# Altium footprint library Small Outline with J Leads.PcbLib: 40 footprints (part 2 of 3)
Each footprint in its own frame and in the unit in brackets; x right, y up, seen from the top. Pads: shape width x height; smd on the part's side, far side on the other; paste and mask are expansions set on the pad; w line width, h text height; cw(c..) or ccw(c..) is an arc to the next point about the centre after c.
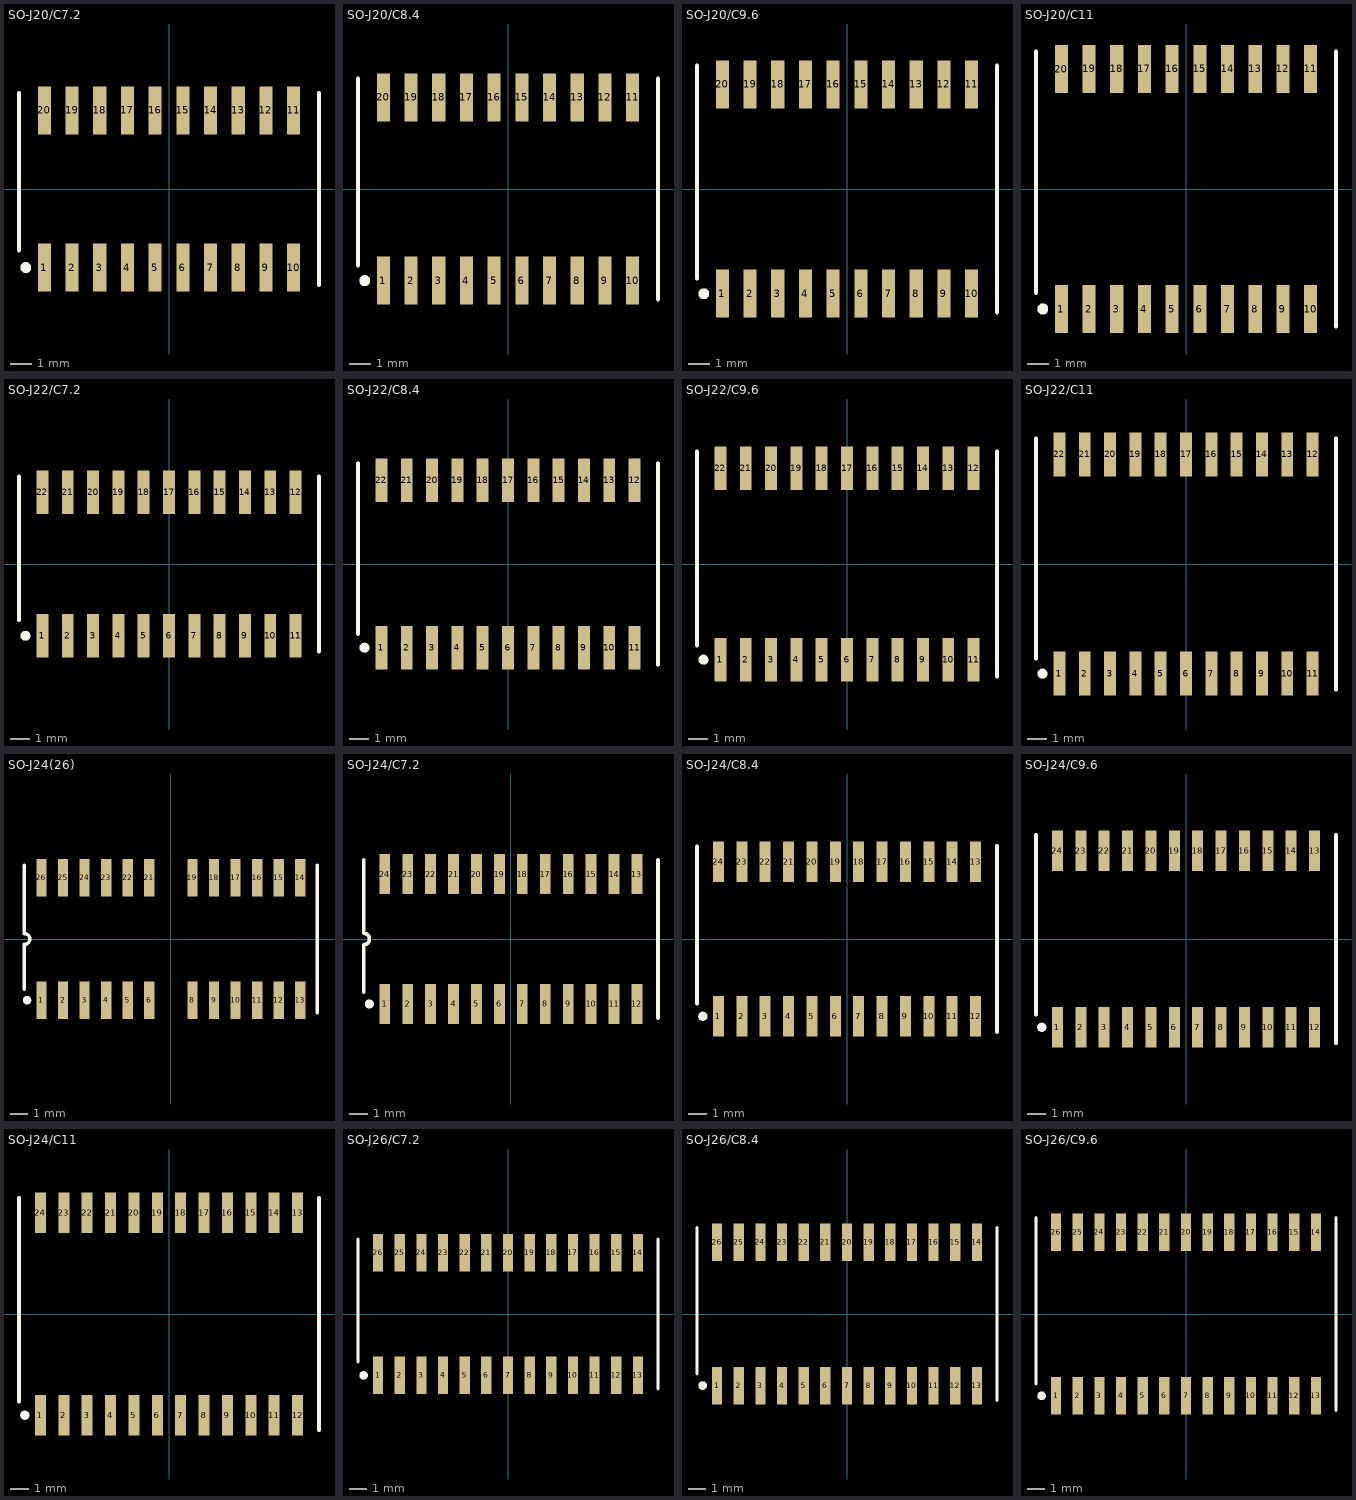
[diagram p1: the footprints below, top view; thin cyan lines are the x and y axes]

## SO-J20/C7.2 [mm] "SOJ; 20 Leads; Body Width 7.62 mm; Pitch 1.27 mm"
height 3.75
pads (20):
  rect 0.6x2.2 smd: 1(-5.715,-3.6) 2(-4.445,-3.6) 3(-3.175,-3.6) 4(-1.905,-3.6) 5(-0.635,-3.6) 6(0.635,-3.6) 7(1.905,-3.6) 8(3.175,-3.6) 9(4.445,-3.6) 10(5.715,-3.6) 11(5.715,3.6) 12(4.445,3.6) 13(3.175,3.6) 14(1.905,3.6) 15(0.635,3.6) 16(-0.635,3.6) 17(-1.905,3.6) 18(-3.175,3.6) 19(-4.445,3.6) 20(-5.715,3.6)
Top Overlay:
  circle w0.25: c-6.565,-3.6 r0.125
  lines w0.2: -6.875,-2.8 -6.875,4.4 ; 6.875,-4.4 6.875,4.4

## SO-J20/C8.4 [mm] "SOJ; 20 Leads; Body Width 8.9 mm; Pitch 1.27 mm"
height 3.75
pads (20):
  rect 0.6x2.2 smd: 1(-5.715,-4.2) 2(-4.445,-4.2) 3(-3.175,-4.2) 4(-1.905,-4.2) 5(-0.635,-4.2) 6(0.635,-4.2) 7(1.905,-4.2) 8(3.175,-4.2) 9(4.445,-4.2) 10(5.715,-4.2) 11(5.715,4.2) 12(4.445,4.2) 13(3.175,4.2) 14(1.905,4.2) 15(0.635,4.2) 16(-0.635,4.2) 17(-1.905,4.2) 18(-3.175,4.2) 19(-4.445,4.2) 20(-5.715,4.2)
Top Overlay:
  circle w0.25: c-6.565,-4.2 r0.125
  lines w0.2: -6.875,-3.5 -6.875,5.05 ; 6.875,-5.05 6.875,5.05

## SO-J20/C9.6 [mm] "SOJ; 20 Leads; Body Width 10.16 mm; Pitch 1.27 mm"
height 3.75
pads (20):
  rect 0.6x2.2 smd: 1(-5.715,-4.8) 2(-4.445,-4.8) 3(-3.175,-4.8) 4(-1.905,-4.8) 5(-0.635,-4.8) 6(0.635,-4.8) 7(1.905,-4.8) 8(3.175,-4.8) 9(4.445,-4.8) 10(5.715,-4.8) 11(5.715,4.8) 12(4.445,4.8) 13(3.175,4.8) 14(1.905,4.8) 15(0.635,4.8) 16(-0.635,4.8) 17(-1.905,4.8) 18(-3.175,4.8) 19(-4.445,4.8) 20(-5.715,4.8)
Top Overlay:
  circle w0.25: c-6.565,-4.8 r0.125
  lines w0.2: -6.875,-4.1 -6.875,5.65 ; 6.875,-5.65 6.875,5.65

## SO-J20/C11 [mm] "SOJ; 20 Leads; Body Width 11.4 mm; Pitch 1.27 mm"
height 3.75
pads (20):
  rect 0.6x2.2 smd: 1(-5.715,-5.5) 2(-4.445,-5.5) 3(-3.175,-5.5) 4(-1.905,-5.5) 5(-0.635,-5.5) 6(0.635,-5.5) 7(1.905,-5.5) 8(3.175,-5.5) 9(4.445,-5.5) 10(5.715,-5.5) 11(5.715,5.5) 12(4.445,5.5) 13(3.175,5.5) 14(1.905,5.5) 15(0.635,5.5) 16(-0.635,5.5) 17(-1.905,5.5) 18(-3.175,5.5) 19(-4.445,5.5) 20(-5.715,5.5)
Top Overlay:
  circle w0.25: c-6.565,-5.5 r0.125
  lines w0.2: -6.875,-4.75 -6.875,6.3 ; 6.875,-6.3 6.875,6.3

## SO-J22/C7.2 [mm] "SOJ; 22 Leads; Body Width 7.62 mm; Pitch 1.27 mm"
height 3.75
pads (22):
  rect 0.6x2.2 smd: 1(-6.35,-3.6) 2(-5.08,-3.6) 3(-3.81,-3.6) 4(-2.54,-3.6) 5(-1.27,-3.6) 6(0,-3.6) 7(1.27,-3.6) 8(2.54,-3.6) 9(3.81,-3.6) 10(5.08,-3.6) 11(6.35,-3.6) 12(6.35,3.6) 13(5.08,3.6) 14(3.81,3.6) 15(2.54,3.6) 16(1.27,3.6) 17(0,3.6) 18(-1.27,3.6) 19(-2.54,3.6) 20(-3.81,3.6) 21(-5.08,3.6) 22(-6.35,3.6)
Top Overlay:
  circle w0.25: c-7.2,-3.6 r0.125
  lines w0.2: -7.525,-2.8 -7.525,4.4 ; 7.525,-4.4 7.525,4.4

## SO-J22/C8.4 [mm] "SOJ; 22 Leads; Body Width 8.9 mm; Pitch 1.27 mm"
height 3.75
pads (22):
  rect 0.6x2.2 smd: 1(-6.35,-4.2) 2(-5.08,-4.2) 3(-3.81,-4.2) 4(-2.54,-4.2) 5(-1.27,-4.2) 6(0,-4.2) 7(1.27,-4.2) 8(2.54,-4.2) 9(3.81,-4.2) 10(5.08,-4.2) 11(6.35,-4.2) 12(6.35,4.2) 13(5.08,4.2) 14(3.81,4.2) 15(2.54,4.2) 16(1.27,4.2) 17(0,4.2) 18(-1.27,4.2) 19(-2.54,4.2) 20(-3.81,4.2) 21(-5.08,4.2) 22(-6.35,4.2)
Top Overlay:
  circle w0.25: c-7.2,-4.2 r0.125
  lines w0.2: -7.525,-3.5 -7.525,5.05 ; 7.525,-5.05 7.525,5.05

## SO-J22/C9.6 [mm] "SOJ; 22 Leads; Body Width 10.16 mm; Pitch 1.27 mm"
height 3.75
pads (22):
  rect 0.6x2.2 smd: 1(-6.35,-4.8) 2(-5.08,-4.8) 3(-3.81,-4.8) 4(-2.54,-4.8) 5(-1.27,-4.8) 6(0,-4.8) 7(1.27,-4.8) 8(2.54,-4.8) 9(3.81,-4.8) 10(5.08,-4.8) 11(6.35,-4.8) 12(6.35,4.8) 13(5.08,4.8) 14(3.81,4.8) 15(2.54,4.8) 16(1.27,4.8) 17(0,4.8) 18(-1.27,4.8) 19(-2.54,4.8) 20(-3.81,4.8) 21(-5.08,4.8) 22(-6.35,4.8)
Top Overlay:
  circle w0.25: c-7.2,-4.8 r0.125
  lines w0.2: -7.525,-4.1 -7.525,5.65 ; 7.525,-5.65 7.525,5.65

## SO-J22/C11 [mm] "SOJ; 22 Leads; Body Width 11.4 mm; Pitch 1.27 mm"
height 3.75
pads (22):
  rect 0.6x2.2 smd: 1(-6.35,-5.5) 2(-5.08,-5.5) 3(-3.81,-5.5) 4(-2.54,-5.5) 5(-1.27,-5.5) 6(0,-5.5) 7(1.27,-5.5) 8(2.54,-5.5) 9(3.81,-5.5) 10(5.08,-5.5) 11(6.35,-5.5) 12(6.35,5.5) 13(5.08,5.5) 14(3.81,5.5) 15(2.54,5.5) 16(1.27,5.5) 17(0,5.5) 18(-1.27,5.5) 19(-2.54,5.5) 20(-3.81,5.5) 21(-5.08,5.5) 22(-6.35,5.5)
Top Overlay:
  circle w0.25: c-7.2,-5.5 r0.125
  lines w0.2: -7.525,-4.75 -7.525,6.3 ; 7.525,-6.3 7.525,6.3

## SO-J24(26) [mm] "SOJ; 24 Leads; Body Width 7.62 mm; Pitch 1.27 mm"
height 3.76
pads (24):
  rect 0.6x2.2 smd: 1(-7.62,-3.6) 2(-6.35,-3.6) 3(-5.08,-3.6) 4(-3.81,-3.6) 5(-2.54,-3.6) 6(-1.27,-3.6) 8(1.27,-3.6) 9(2.54,-3.6) 10(3.81,-3.6) 11(5.08,-3.6) 12(6.35,-3.6) 13(7.62,-3.6) 14(7.62,3.6) 15(6.35,3.6) 16(5.08,3.6) 17(3.81,3.6) 18(2.54,3.6) 19(1.27,3.6) 21(-1.27,3.6) 22(-2.54,3.6) 23(-3.81,3.6) 24(-5.08,3.6) 25(-6.35,3.6) 26(-7.62,3.6)
Top Overlay:
  circle w0.25: c-8.47,-3.6 r0.125
  lines w0.2: -8.625,-2.95 -8.625,-0.318 ccw(c-8.625,0) -8.625,0.318 -8.625,4.35 ; 8.625,-4.35 8.625,4.35

## SO-J24/C7.2 [mm] "SOJ; 24 Leads; Body Width 7.62 mm; Pitch 1.27 mm"
height 3.75
pads (24):
  rect 0.6x2.2 smd: 1(-6.985,-3.6) 2(-5.715,-3.6) 3(-4.445,-3.6) 4(-3.175,-3.6) 5(-1.905,-3.6) 6(-0.635,-3.6) 7(0.635,-3.6) 8(1.905,-3.6) 9(3.175,-3.6) 10(4.445,-3.6) 11(5.715,-3.6) 12(6.985,-3.6) 13(6.985,3.6) 14(5.715,3.6) 15(4.445,3.6) 16(3.175,3.6) 17(1.905,3.6) 18(0.635,3.6) 19(-0.635,3.6) 20(-1.905,3.6) 21(-3.175,3.6) 22(-4.445,3.6) 23(-5.715,3.6) 24(-6.985,3.6)
Top Overlay:
  circle w0.25: c-7.835,-3.6 r0.125
  lines w0.2: -8.15,-2.95 -8.15,-0.318 ccw(c-8.15,0) -8.15,0.318 -8.15,4.4 ; 8.15,-4.4 8.15,4.4

## SO-J24/C8.4 [mm] "SOJ; 24 Leads; Body Width 8.9 mm; Pitch 1.27 mm"
height 3.75
pads (24):
  rect 0.6x2.2 smd: 1(-6.985,-4.2) 2(-5.715,-4.2) 3(-4.445,-4.2) 4(-3.175,-4.2) 5(-1.905,-4.2) 6(-0.635,-4.2) 7(0.635,-4.2) 8(1.905,-4.2) 9(3.175,-4.2) 10(4.445,-4.2) 11(5.715,-4.2) 12(6.985,-4.2) 13(6.985,4.2) 14(5.715,4.2) 15(4.445,4.2) 16(3.175,4.2) 17(1.905,4.2) 18(0.635,4.2) 19(-0.635,4.2) 20(-1.905,4.2) 21(-3.175,4.2) 22(-4.445,4.2) 23(-5.715,4.2) 24(-6.985,4.2)
Top Overlay:
  circle w0.25: c-7.835,-4.2 r0.125
  lines w0.2: -8.15,-3.5 -8.15,5.044 ; 8.15,-5.05 8.15,5.05

## SO-J24/C9.6 [mm] "SOJ; 24 Leads; Body Width 10.16 mm; Pitch 1.27 mm"
height 3.75
pads (24):
  rect 0.6x2.2 smd: 1(-6.985,-4.8) 2(-5.715,-4.8) 3(-4.445,-4.8) 4(-3.175,-4.8) 5(-1.905,-4.8) 6(-0.635,-4.8) 7(0.635,-4.8) 8(1.905,-4.8) 9(3.175,-4.8) 10(4.445,-4.8) 11(5.715,-4.8) 12(6.985,-4.8) 13(6.985,4.8) 14(5.715,4.8) 15(4.445,4.8) 16(3.175,4.8) 17(1.905,4.8) 18(0.635,4.8) 19(-0.635,4.8) 20(-1.905,4.8) 21(-3.175,4.8) 22(-4.445,4.8) 23(-5.715,4.8) 24(-6.985,4.8)
Top Overlay:
  circle w0.25: c-7.835,-4.8 r0.125
  lines w0.2: -8.15,-4.1 -8.15,5.65 ; 8.15,-5.65 8.15,5.65

## SO-J24/C11 [mm] "SOJ; 24 Leads; Body Width 11.4 mm; Pitch 1.27 mm"
height 3.75
pads (24):
  rect 0.6x2.2 smd: 1(-6.985,-5.5) 2(-5.715,-5.5) 3(-4.445,-5.5) 4(-3.175,-5.5) 5(-1.905,-5.5) 6(-0.635,-5.5) 7(0.635,-5.5) 8(1.905,-5.5) 9(3.175,-5.5) 10(4.445,-5.5) 11(5.715,-5.5) 12(6.985,-5.5) 13(6.985,5.5) 14(5.715,5.5) 15(4.445,5.5) 16(3.175,5.5) 17(1.905,5.5) 18(0.635,5.5) 19(-0.635,5.5) 20(-1.905,5.5) 21(-3.175,5.5) 22(-4.445,5.5) 23(-5.715,5.5) 24(-6.985,5.5)
Top Overlay:
  circle w0.25: c-7.835,-5.5 r0.125
  lines w0.2: -8.15,-4.75 -8.15,6.3 ; 8.15,-6.3 8.15,6.3

## SO-J26/C7.2 [mm] "SOJ; 26 Leads; Body Width 7.62 mm; Pitch 1.27 mm"
height 3.75
pads (26):
  rect 0.6x2.2 smd: 1(-7.62,-3.6) 2(-6.35,-3.6) 3(-5.08,-3.6) 4(-3.81,-3.6) 5(-2.54,-3.6) 6(-1.27,-3.6) 7(0,-3.6) 8(1.27,-3.6) 9(2.54,-3.6) 10(3.81,-3.6) 11(5.08,-3.6) 12(6.35,-3.6) 13(7.62,-3.6) 14(7.62,3.6) 15(6.35,3.6) 16(5.08,3.6) 17(3.81,3.6) 18(2.54,3.6) 19(1.27,3.6) 20(0,3.6) 21(-1.27,3.6) 22(-2.54,3.6) 23(-3.81,3.6) 24(-5.08,3.6) 25(-6.35,3.6) 26(-7.62,3.6)
Top Overlay:
  circle w0.25: c-8.47,-3.6 r0.125
  lines w0.2: -8.8,-2.8 -8.8,4.4 ; 8.8,-4.4 8.8,4.4

## SO-J26/C8.4 [mm] "SOJ; 26 Leads; Body Width 8.9 mm; Pitch 1.27 mm"
height 3.75
pads (26):
  rect 0.6x2.2 smd: 1(-7.62,-4.2) 2(-6.35,-4.2) 3(-5.08,-4.2) 4(-3.81,-4.2) 5(-2.54,-4.2) 6(-1.27,-4.2) 7(0,-4.2) 8(1.27,-4.2) 9(2.54,-4.2) 10(3.81,-4.2) 11(5.08,-4.2) 12(6.35,-4.2) 13(7.62,-4.2) 14(7.62,4.2) 15(6.35,4.2) 16(5.08,4.2) 17(3.81,4.2) 18(2.54,4.2) 19(1.27,4.2) 20(0,4.2) 21(-1.27,4.2) 22(-2.54,4.2) 23(-3.81,4.2) 24(-5.08,4.2) 25(-6.35,4.2) 26(-7.62,4.2)
Top Overlay:
  circle w0.25: c-8.47,-4.2 r0.125
  lines w0.2: -8.8,-3.5 -8.8,5.05 ; 8.8,-5.05 8.8,5.05

## SO-J26/C9.6 [mm] "SOJ; 26 Leads; Body Width 10.16 mm; Pitch 1.27 mm"
height 3.75
pads (26):
  rect 0.6x2.2 smd: 1(-7.62,-4.8) 2(-6.35,-4.8) 3(-5.08,-4.8) 4(-3.81,-4.8) 5(-2.54,-4.8) 6(-1.27,-4.8) 7(0,-4.8) 8(1.27,-4.8) 9(2.54,-4.8) 10(3.81,-4.8) 11(5.08,-4.8) 12(6.35,-4.8) 13(7.62,-4.8) 14(7.62,4.8) 15(6.35,4.8) 16(5.08,4.8) 17(3.81,4.8) 18(2.54,4.8) 19(1.27,4.8) 20(0,4.8) 21(-1.27,4.8) 22(-2.54,4.8) 23(-3.81,4.8) 24(-5.08,4.8) 25(-6.35,4.8) 26(-7.62,4.8)
Top Overlay:
  circle w0.25: c-8.47,-4.8 r0.125
  lines w0.2: -8.8,-4.1 -8.8,5.65 ; 8.8,-5.65 8.8,5.65